# EAGLE library part LAUNCHXL-F28379D (library LAUNCHXL-F28379D)
Check availability <https://pricing.snapeda.com/parts/LAUNCHXL-F28379D/Texas%20Instruments/view-part?ref=eda>
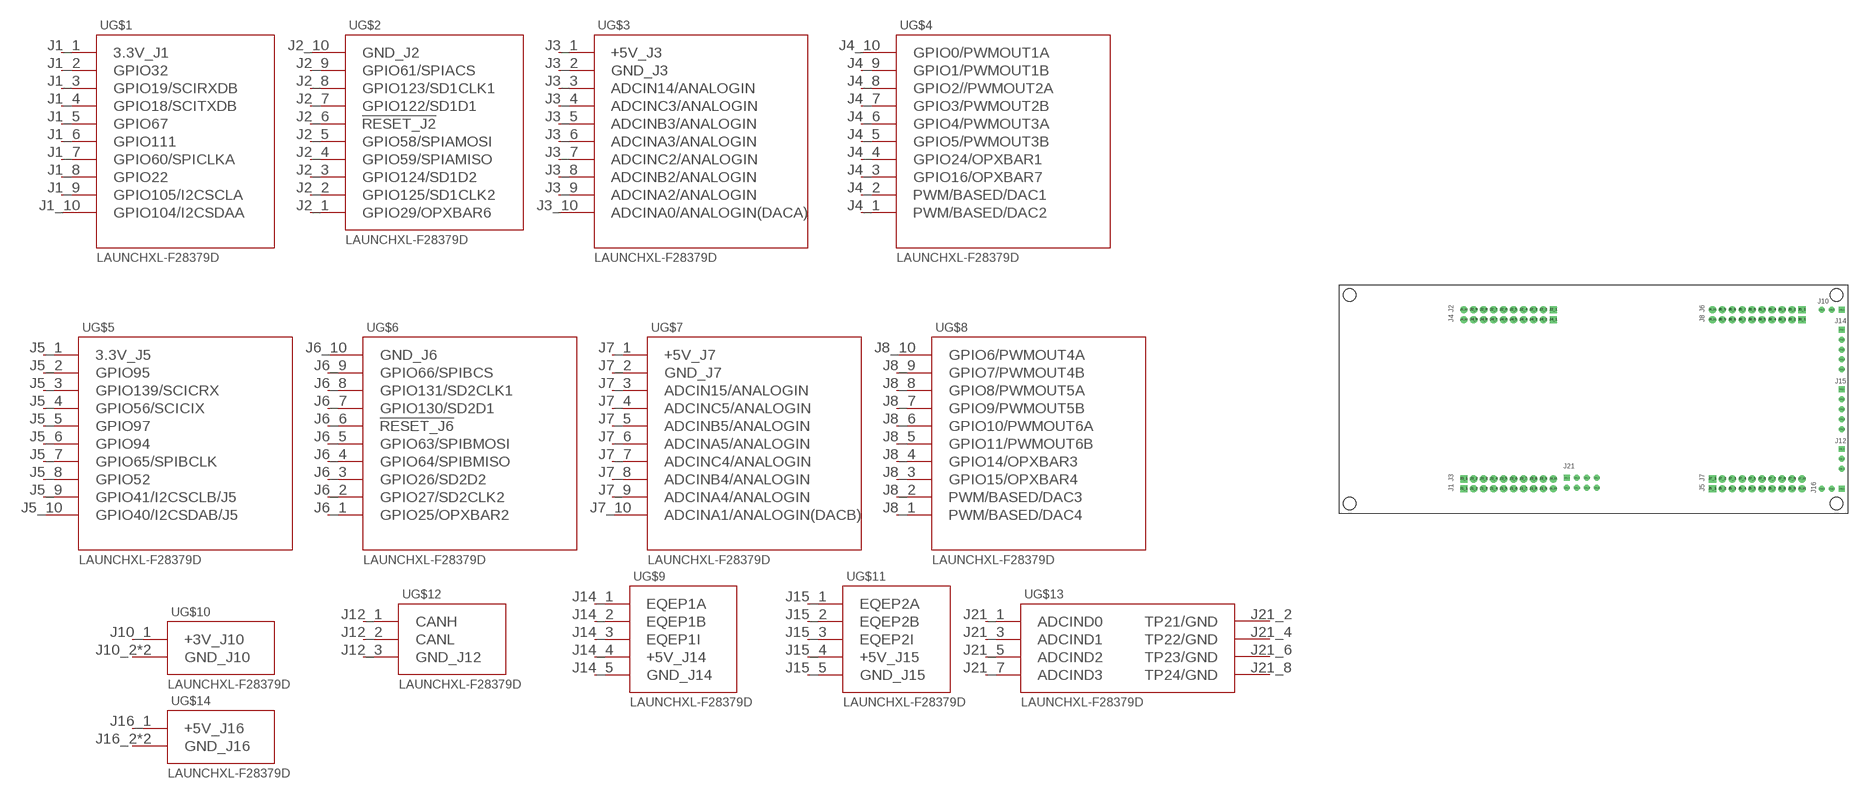
[diagram p0: symbol with the pads of MOD_LAUNCHXL-F28379D; footprint MOD_LAUNCHXL-F28379D]

Designator prefix U; gates G$1=LAUNCHXL-F28379D_J1 G$2=LAUNCHXL-F28379D_J2 G$3=LAUNCHXL-F28379D_J3 G$4=LAUNCHXL-F28379D_J4 G$5=LAUNCHXL-F28379D_J5 G$6=LAUNCHXL-F28379D_J6 G$7=LAUNCHXL-F28379D_J7 G$8=LAUNCHXL-F28379D_J8 G$10=LAUNCHXL-F28379D_J10 G$12=LAUNCHXL-F28379D_J12 G$9=LAUNCHXL-F28379D_J14 G$11=LAUNCHXL-F28379D_J15 G$13=LAUNCHXL-F28379D_J21 G$14=LAUNCHXL-F28379D_J16

## LAUNCHXL-F28379D (Availability: In Stock; Description: C2000 Delfino MCU F28379D LaunchPad™ development kit; MF: Texas Instruments; MP: LAUNCHXL-F28379D; Package: None; Price: None; Purchase-URL: https://pricing.snapeda.com/search/part/LAUNCHXL-F28379D/?ref=eda)  [MOD_LAUNCHXL-F28379D]
J1_1  G$1:3.3V_J1  pwr
J1_2  G$1:GPIO32
J1_3  G$1:GPIO19/SCIRXDB
J1_4  G$1:GPIO18/SCITXDB
J1_5  G$1:GPIO67
J1_6  G$1:GPIO111
J1_7  G$1:GPIO60/SPICLKA
J1_8  G$1:GPIO22
J1_9  G$1:GPIO105/I2CSCLA
J1_10  G$1:GPIO104/I2CSDAA
J2_1  G$2:GPIO29/OPXBAR6
J2_2  G$2:GPIO125/SD1CLK2
J2_3  G$2:GPIO124/SD1D2
J2_4  G$2:GPIO59/SPIAMISO
J2_5  G$2:GPIO58/SPIAMOSI
J2_6  G$2:!RESET_J2
J2_7  G$2:GPIO122/SD1D1
J2_8  G$2:GPIO123/SD1CLK1
J2_9  G$2:GPIO61/SPIACS
J2_10  G$2:GND_J2  pwr
J3_1  G$3:+5V_J3  pwr
J3_2  G$3:GND_J3  pwr
J3_3  G$3:ADCIN14/ANALOGIN
J3_4  G$3:ADCINC3/ANALOGIN
J3_5  G$3:ADCINB3/ANALOGIN
J3_6  G$3:ADCINA3/ANALOGIN
J3_7  G$3:ADCINC2/ANALOGIN
J3_8  G$3:ADCINB2/ANALOGIN
J3_9  G$3:ADCINA2/ANALOGIN
J3_10  G$3:ADCINA0/ANALOGIN(DACA)
J4_1  G$4:PWM/BASED/DAC2
J4_2  G$4:PWM/BASED/DAC1
J4_3  G$4:GPIO16/OPXBAR7
J4_4  G$4:GPIO24/OPXBAR1
J4_5  G$4:GPIO5/PWMOUT3B
J4_6  G$4:GPIO4/PWMOUT3A
J4_7  G$4:GPIO3/PWMOUT2B
J4_8  G$4:GPIO2//PWMOUT2A
J4_9  G$4:GPIO1/PWMOUT1B
J4_10  G$4:GPIO0/PWMOUT1A
J5_1  G$5:3.3V_J5  pwr
J5_2  G$5:GPIO95
J5_3  G$5:GPIO139/SCICRX
J5_4  G$5:GPIO56/SCICIX
J5_5  G$5:GPIO97
J5_6  G$5:GPIO94
J5_7  G$5:GPIO65/SPIBCLK
J5_8  G$5:GPIO52
J5_9  G$5:GPIO41/I2CSCLB/J5
J5_10  G$5:GPIO40/I2CSDAB/J5
J6_1  G$6:GPIO25/OPXBAR2
J6_2  G$6:GPIO27/SD2CLK2
J6_3  G$6:GPIO26/SD2D2
J6_4  G$6:GPIO64/SPIBMISO
J6_5  G$6:GPIO63/SPIBMOSI
J6_6  G$6:!RESET_J6
J6_7  G$6:GPIO130/SD2D1
J6_8  G$6:GPIO131/SD2CLK1
J6_9  G$6:GPIO66/SPIBCS
J6_10  G$6:GND_J6  pwr
J7_1  G$7:+5V_J7  pwr
J7_2  G$7:GND_J7  pwr
J7_3  G$7:ADCIN15/ANALOGIN
J7_4  G$7:ADCINC5/ANALOGIN
J7_5  G$7:ADCINB5/ANALOGIN
J7_6  G$7:ADCINA5/ANALOGIN
J7_7  G$7:ADCINC4/ANALOGIN
J7_8  G$7:ADCINB4/ANALOGIN
J7_9  G$7:ADCINA4/ANALOGIN
J7_10  G$7:ADCINA1/ANALOGIN(DACB)
J8_1  G$8:PWM/BASED/DAC4
J8_2  G$8:PWM/BASED/DAC3
J8_3  G$8:GPIO15/OPXBAR4
J8_4  G$8:GPIO14/OPXBAR3
J8_5  G$8:GPIO11/PWMOUT6B
J8_6  G$8:GPIO10/PWMOUT6A
J8_7  G$8:GPIO9/PWMOUT5B
J8_8  G$8:GPIO8/PWMOUT5A
J8_9  G$8:GPIO7/PWMOUT4B
J8_10  G$8:GPIO6/PWMOUT4A
J10_1  G$10:+3V_J10  pwr
J10_2  G$10:GND_J10  pwr
J10_3  G$10:GND_J10  pwr
J12_1  G$12:CANH
J12_2  G$12:CANL
J12_3  G$12:GND_J12  pwr
J14_1  G$9:EQEP1A
J14_2  G$9:EQEP1B
J14_3  G$9:EQEP1I
J14_4  G$9:+5V_J14  pwr
J14_5  G$9:GND_J14  pwr
J15_1  G$11:EQEP2A
J15_2  G$11:EQEP2B
J15_3  G$11:EQEP2I
J15_4  G$11:+5V_J15  pwr
J15_5  G$11:GND_J15  pwr
J16_1  G$14:+5V_J16  pwr
J16_2  G$14:GND_J16  pwr
J16_3  G$14:GND_J16  pwr
J21_1  G$13:ADCIND0  in
J21_2  G$13:TP21/GND  pwr
J21_3  G$13:ADCIND1  in
J21_4  G$13:TP22/GND  pwr
J21_5  G$13:ADCIND2  in
J21_6  G$13:TP23/GND  pwr
J21_7  G$13:ADCIND3  in
J21_8  G$13:TP24/GND  pwr

## Footprint MOD_LAUNCHXL-F28379D (pad centres in mm)
drill 1.016 pad 1.88 square: J1_1 -33.147,-22.86; J2_1 -10.287,22.86; J3_1 -33.147,-20.32; J4_1 -10.287,20.32; J5_1 30.353,-22.86; J6_1 53.213,22.86; J7_1 30.353,-20.32; J8_1 53.213,20.32
drill 1.016 pad 1.88: J1_2 -30.607,-22.86; J1_3 -28.067,-22.86; J1_4 -25.527,-22.86; J1_5 -22.987,-22.86; J1_6 -20.447,-22.86; J1_7 -17.907,-22.86; J1_8 -15.367,-22.86; J1_9 -12.827,-22.86; J1_10 -10.287,-22.86; J2_2 -12.827,22.86; J2_3 -15.367,22.86; J2_4 -17.907,22.86; J2_5 -20.447,22.86; J2_6 -22.987,22.86; J2_7 -25.527,22.86; J2_8 -28.067,22.86; J2_9 -30.607,22.86; J2_10 -33.147,22.86; J3_2 -30.607,-20.32; J3_3 -28.067,-20.32; J3_4 -25.527,-20.32; J3_5 -22.987,-20.32; J3_6 -20.447,-20.32; J3_7 -17.907,-20.32; J3_8 -15.367,-20.32; J3_9 -12.827,-20.32; J3_10 -10.287,-20.32; J4_2 -12.827,20.32; J4_3 -15.367,20.32; J4_4 -17.907,20.32; J4_5 -20.447,20.32; J4_6 -22.987,20.32; J4_7 -25.527,20.32; J4_8 -28.067,20.32; J4_9 -30.607,20.32; J4_10 -33.147,20.32; J5_2 32.893,-22.86; J5_3 35.433,-22.86; J5_4 37.973,-22.86; J5_5 40.513,-22.86; J5_6 43.053,-22.86; J5_7 45.593,-22.86; J5_8 48.133,-22.86; J5_9 50.673,-22.86; J5_10 53.213,-22.86; J6_2 50.673,22.86; J6_3 48.133,22.86; J6_4 45.593,22.86; J6_5 43.053,22.86; J6_6 40.513,22.86; J6_7 37.973,22.86; J6_8 35.433,22.86; J6_9 32.893,22.86; J6_10 30.353,22.86; J7_2 32.893,-20.32; J7_3 35.433,-20.32; J7_4 37.973,-20.32; J7_5 40.513,-20.32; J7_6 43.053,-20.32; J7_7 45.593,-20.32; J7_8 48.133,-20.32; J7_9 50.673,-20.32; J7_10 53.213,-20.32; J8_2 50.673,20.32; J8_3 48.133,20.32; J8_4 45.593,20.32; J8_5 43.053,20.32; J8_6 40.513,20.32; J8_7 37.973,20.32; J8_8 35.433,20.32; J8_9 32.893,20.32; J8_10 30.353,20.32
drill 1.016 square: J10_1 63.373,22.86; J12_1 63.373,-12.7; J14_1 63.373,17.78; J15_1 63.373,2.54; J16_1 63.373,-22.86
drill 1.016: J10_2 60.833,22.86; J10_3 58.293,22.86; J12_2 63.373,-15.24; J12_3 63.373,-17.78; J14_2 63.373,15.24; J14_3 63.373,12.7; J14_4 63.373,10.16; J14_5 63.373,7.62; J15_2 63.373,0; J15_3 63.373,-2.54; J15_4 63.373,-5.08; J15_5 63.373,-7.62; J16_2 60.833,-22.86; J16_3 58.293,-22.86
drill 1 pad 1.5 square: J21_1 -6.803,-20.086
drill 1 pad 1.5: J21_2 -6.803,-22.626; J21_3 -4.263,-20.086; J21_4 -4.263,-22.626; J21_5 -1.723,-20.086; J21_6 -1.723,-22.626; J21_7 0.817,-20.086; J21_8 0.817,-22.626
hole 3.175 at -62.357,26.67
hole 3.175 at 62.103,26.67
hole 3.175 at -62.357,-26.67
hole 3.175 at 62.103,-26.67